# Altium footprint library Capacitors_rus.PCBLIB: 349 footprints (part 7 of 22)
Each footprint in its own frame and in the unit in brackets; x right, y up, seen from the top. Pads: shape width x height; smd on the part's side, far side on the other; paste and mask are expansions set on the pad; w line width, h text height; cw(c..) or ccw(c..) is an arc to the next point about the centre after c.
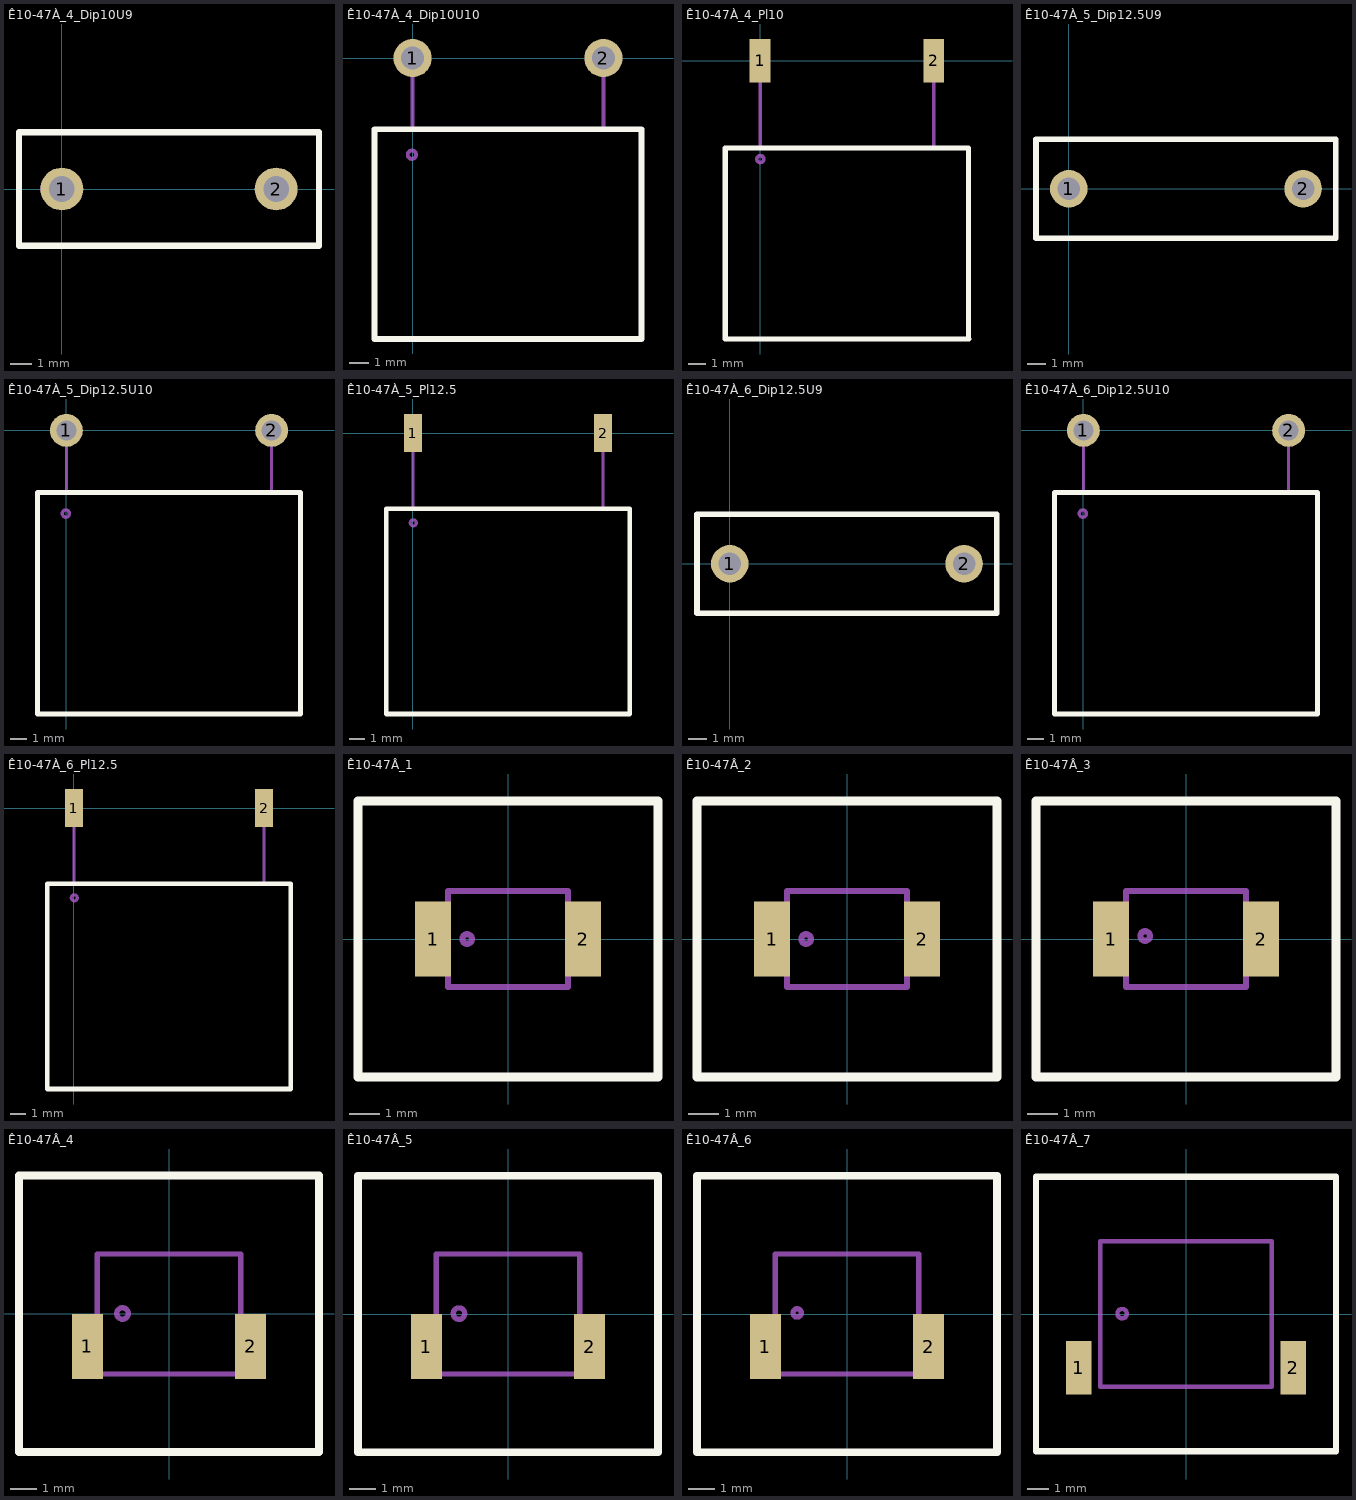
[diagram p6: the footprints below, top view; thin cyan lines are the x and y axes]

## Ê10-47À_4_Dip10U9 [mm]
height 11
pads (2):
  round 2 hole 1.2: 1(0,0) 2(10,0)
Top Overlay:
  lines w0.3: -2,-2.65 12,-2.65 12,2.65 -2,2.65 -2,-2.65
Mechanical 1:
  circle w0.2: c-0.7,-0.005 r0.22
  lines w0.2: -2,-2.65 12,-2.65 12,2.65 -2,2.65 -2,-2.65
  text ".Designator" at 2.93,-0.4 h1.5

## Ê10-47À_4_Dip10U10 [mm]
height 5.3
pads (2):
  round 2 hole 1.2: 1(0,0) 2(10,0)
Top Overlay:
  lines w0.3: -2,-14.725 12,-14.725 12,-3.725 -2,-3.725 -2,-14.725
Mechanical 1:
  circle w0.2: c-0.04,-5.065 r0.22
  lines w0.2: 0,-3.745 0,0 ; 10,-3.75 10,0 ; -2,-14.725 12,-14.725 12,-3.725 -2,-3.725 -2,-14.725
  text ".Designator" at 2.23,-9.8 h1.5

## Ê10-47À_4_Pl10 [mm]
height 5.3
pads (2):
  rect 1.2x2.5 smd: 1(0,0) 2(10,0)
Top Overlay:
  lines w0.3: 12,-16.025 12,-5.025 -2,-5.025 -2,-16.025 12.01,-16.025
Mechanical 1:
  circle w0.2: c0.01,-5.665 r0.2
  lines w0.2: 0,-5.045 0,0 ; 10,-5.045 10,0 ; -2,-16.025 12,-16.025 12,-5.025 -2,-5.025 -2,-16.025
  text ".Designator" at 2.73,-10.45 h1.5

## Ê10-47À_5_Dip12.5U9 [mm]
height 13.5
pads (2):
  round 2 hole 1.2: 1(0,0) 2(12.5,0)
Top Overlay:
  lines w0.3: -1.75,2.62 -1.75,-2.65 14.25,-2.65 14.25,2.65 -1.75,2.65
Mechanical 1:
  circle w0.2: c-0.26,-0.005 r0.22
  lines w0.2: -1.75,-2.65 -1.75,2.65 14.25,2.65 ; -0.75,-2.65 14.25,-2.65 ; 14.26,-2.68 14.26,2.62
  text ".Designator" at 3.43,-0.25 h1.5

## Ê10-47À_5_Dip12.5U10 [mm]
height 5.3
pads (2):
  round 2 hole 1.2: 1(0,0) 2(12.5,0)
Top Overlay:
  lines w0.3: -1.75,-17.275 14.25,-17.275 14.25,-3.775 -1.75,-3.775 -1.75,-17.275
Mechanical 1:
  circle w0.2: c-0.04,-5.065 r0.22
  lines w0.2: -1.75,-3.775 14.25,-3.775 14.25,-17.275 -1.75,-17.275 -1.75,-3.765 ; 0,-3.8 0,0 ; 12.5,-3.8 12.5,0
  text ".Designator" at 3.13,-10.75 h1.5

## Ê10-47À_5_Pl12.5 [mm]
height 5.3
pads (2):
  rect 1.2x2.5 smd: 1(0,0) 2(12.5,0)
Top Overlay:
  lines w0.3: -1.75,-18.475 -1.75,-4.975 14.25,-4.975 14.25,-18.475 -1.75,-18.475
Mechanical 1:
  circle w0.2: c0.02,-5.905 r0.2
  lines w0.2: 0,-4.995 0,0 ; 12.5,-4.985 12.5,0 ; -1.75,-18.475 -1.75,-4.975 14.25,-4.975 14.25,-18.475 -1.75,-18.475
  text ".Designator" at 4.63,-12.1 h1.5

## Ê10-47À_6_Dip12.5U9 [mm]
height 13.5
pads (2):
  round 2 hole 1.2: 1(0,0) 2(12.5,0)
Top Overlay:
  lines w0.3: -1.75,2.62 -1.75,-2.65 14.25,-2.65 14.25,2.65 -1.75,2.65
Mechanical 1:
  circle w0.2: c-0.26,-0.005 r0.22
  lines w0.2: -1.75,-2.65 -1.75,2.65 14.25,2.65 ; -0.75,-2.65 14.25,-2.65 ; 14.26,-2.68 14.26,2.62
  text ".Designator" at 3.43,-0.25 h1.5

## Ê10-47À_6_Dip12.5U10 [mm]
height 7.1
pads (2):
  round 2 hole 1.2: 1(0,0) 2(12.5,0)
Top Overlay:
  lines w0.3: -1.75,-17.275 14.25,-17.275 14.25,-3.775 -1.75,-3.775 -1.75,-17.275
Mechanical 1:
  circle w0.2: c-0.04,-5.065 r0.22
  lines w0.2: -1.75,-3.775 14.25,-3.775 14.25,-17.275 -1.75,-17.275 -1.75,-3.765 ; 0,-3.8 0,0 ; 12.5,-3.8 12.5,0
  text ".Designator" at 3.13,-10.75 h1.5

## Ê10-47À_6_Pl12.5 [mm]
height 7.1
pads (2):
  rect 1.2x2.5 smd: 1(0,0) 2(12.5,0)
Top Overlay:
  lines w0.3: -1.75,-18.475 14.25,-18.475 14.25,-4.975 -1.75,-4.975 -1.75,-18.475
Mechanical 1:
  circle w0.2: c0.02,-5.905 r0.2
  lines w0.2: 0,-4.995 0,0 ; 12.5,-4.985 12.5,0 ; -1.75,-18.475 14.25,-18.475 14.25,-4.975 -1.75,-4.975 -1.75,-18.475
  text ".Designator" at 4.63,-12.1 h1.5

## Ê10-47Â_1 [mm]
height 1.8
pads (2):
  rect 1.2x2.5 smd: 1(-2.5,0) 2(2.5,0)
Top Overlay:
  lines w0.3: -5,-4.6 5,-4.6 5,4.6 -5,4.6 -5,-4.6
Mechanical 1:
  circle w0.2: c-1.36,0 r0.16
  lines w0.2: -5,-4.6 5,-4.6 5,4.6 -5,4.6 -5,-4.6 ; -2,-1.6 -2,1.6 2,1.6 2,-1.6 -2,-1.6
  text ".Designator" at -1.07,-0.45 h1.5

## Ê10-47Â_2 [mm]
height 2.5
pads (2):
  rect 1.2x2.5 smd: 1(-2.5,0) 2(2.5,0)
Top Overlay:
  lines w0.3: -5,-4.6 5,-4.6 5,4.6 -5,4.6 -5,-4.6
Mechanical 1:
  circle w0.2: c-1.36,0 r0.16
  lines w0.2: -5,-4.6 5,-4.6 5,4.6 -5,4.6 -5,-4.6 ; -2,-1.6 -2,1.6 2,1.6 2,-1.6 -2,-1.6
  text ".Designator" at -0.82,-0.5 h1.5

## Ê10-47Â_3 [mm]
height 3
pads (2):
  rect 1.2x2.5 smd: 1(-2.5,0) 2(2.5,0)
Top Overlay:
  lines w0.3: -5,-4.6 5,-4.6 5,4.6 -5,4.6 -5,-4.6
Mechanical 1:
  circle w0.2: c-1.36,0.1 r0.16
  lines w0.2: -5,-4.6 5,-4.6 5,4.6 -5,4.6 -5,-4.6 ; -2,-1.6 -2,1.6 2,1.6 2,-1.6 -2,-1.6
  text ".Designator" at -1.07,-0.5 h1.5

## Ê10-47Â_4 [mm]
height 1.8
pads (2):
  rect 1.2x2.5 smd: 1(-3.125,-1.25) 2(3.125,-1.25)
Top Overlay:
  lines w0.3: -5.75,-5.3 -5.75,5.3 5.75,5.3 5.75,-5.3 -5.75,-5.3
Mechanical 1:
  circle w0.2: c-1.78,0.015 r0.22
  lines w0.2: 5.75,-5.31 5.75,5.3 -5.75,5.3 -5.75,-5.3 5.75,-5.3 ; -2.75,-2.3 -2.75,2.3 2.75,2.3 2.75,-2.3 -2.75,-2.3
  text ".Designator" at -0.92,-0.4 h1.5

## Ê10-47Â_5 [mm]
height 2.5
pads (2):
  rect 1.2x2.5 smd: 1(-3.125,-1.25) 2(3.125,-1.25)
Top Overlay:
  lines w0.3: -5.75,-5.3 5.75,-5.3 5.75,5.3 -5.75,5.3 -5.75,-5.3
Mechanical 1:
  circle w0.2: c-1.88,0.015 r0.22
  lines w0.2: -5.75,-5.3 5.75,-5.3 5.75,5.3 -5.75,5.3 -5.75,-5.3 ; -2.75,-2.3 2.75,-2.3 2.75,2.3 -2.75,2.3 -2.75,-2.3
  text ".Designator" at -1.22,-0.5 h1.5

## Ê10-47Â_6 [mm]
height 3
pads (2):
  rect 1.2x2.5 smd: 1(-3.125,-1.25) 2(3.125,-1.25)
Top Overlay:
  lines w0.3: -5.75,-5.3 5.75,-5.3 5.75,5.3 -5.75,5.3 -5.75,-5.3
Mechanical 1:
  circle w0.2: c-1.91,0.04 r0.16
  lines w0.2: -5.75,-5.3 5.75,-5.3 5.75,5.3 -5.75,5.3 -5.75,-5.3 ; -2.75,-2.3 2.75,-2.3 2.75,2.3 -2.75,2.3 -2.75,-2.3
  text ".Designator" at -1.42,-0.6 h1.5

## Ê10-47Â_7 [mm]
height 1.8
pads (2):
  rect 1.2x2.5 smd: 1(-5,-2.5) 2(5,-2.5)
Top Overlay:
  lines w0.3: -7,-6.4 -7,6.4 7,6.4 7,-6.4 -7,-6.4
Mechanical 1:
  circle w0.2: c-2.98,0.015 r0.22
  lines w0.2: -7,-6.4 -7,6.4 7,6.4 7,-6.4 -7,-6.4 ; -4,-3.4 -4,3.4 4,3.4 4,-3.4 -4,-3.4
  text ".Designator" at -2.17,-0.55 h1.5